# Altium footprint library Inductors.PcbLib: 20 footprints (part 1 of 2)
Each footprint in its own frame and in the unit in brackets; x right, y up, seen from the top. Pads: shape width x height; smd on the part's side, far side on the other; paste and mask are expansions set on the pad; w line width, h text height; cw(c..) or ccw(c..) is an arc to the next point about the centre after c.
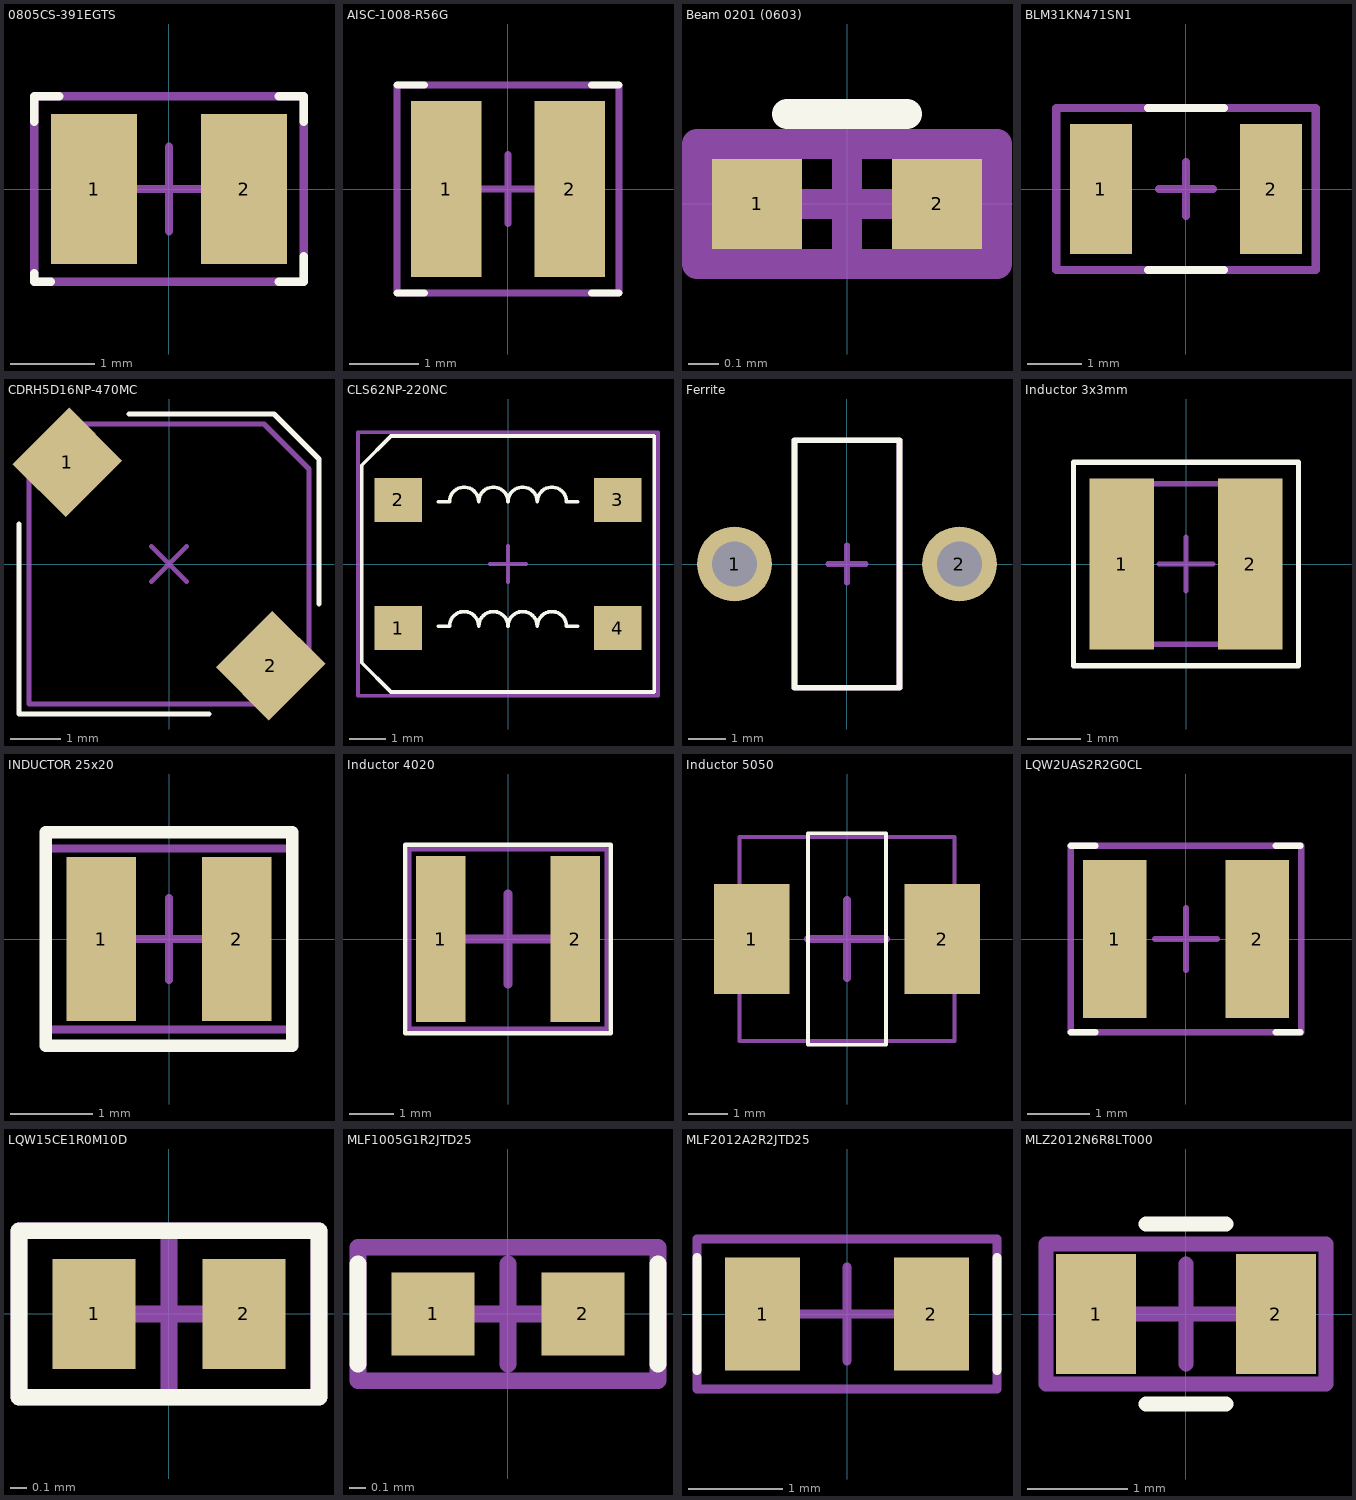
[diagram p0: the footprints below, top view; thin cyan lines are the x and y axes]

## 0805CS-391EGTS [mm]
pads (2):
  rect 1.02x1.78 smd mask+0.05: 1(-0.89,0) 2(0.89,0)
Top Overlay:
  lines w0.1: -1.6,-1 -1.6,-1.1 -1.4,-1.1 ; -1.6,0.8 -1.6,1.1 -1.3,1.1 ; 1.3,-1.1 1.6,-1.1 1.6,-0.8 ; 1.3,1.1 1.6,1.1 1.6,0.8
Mechanical 15:
  lines w0.1: -0.5,0 0.5,0 ; 0,-0.5 0,0.5 ; -1.6,-1.1 1.6,-1.1 1.6,1.1 -1.6,1.1 -1.6,-1.1
3D body "Coilcraft-0805CS.step": height 1.51, standoff -0.01, extent -1.145,-0.863 1.145,0.863

## AISC-1008-R56G [mm]
pads (2):
  rect 1.02x2.54 smd mask+0.05: 1(-0.89,0) 2(0.89,0)
Top Overlay:
  lines w0.1: -1.6,-1.5 -1.2,-1.5 ; -1.6,1.5 -1.2,1.5 ; 1.2,-1.5 1.6,-1.5 ; 1.2,1.5 1.6,1.5
Mechanical 15:
  lines w0.1: -0.5,0 0.5,0 ; 0,-0.5 0,0.5 ; -1.6,-1.5 1.6,-1.5 1.6,1.5 -1.6,1.5 -1.6,-1.5
3D body "inductor_1008as-056j-yy.stp": height 2.02, standoff 0, extent -1.45,-1.4 1.45,1.4

## Beam 0201 (0603) [mm] "Ferrite Beam"
pads (2):
  rect 0.3x0.3 smd: 1(-0.3,0) 2(0.3,0)
Top Overlay:
  lines w0.1: -0.2,0.3 0.2,0.3
Mechanical 15:
  lines w0.1: -0.2,0 0.2,0 ; 0,-0.2 0,0.2 ; 0,0.2 0.5,0.2 0.5,-0.2 -0.5,-0.2 -0.5,0.2 0,0.2
3D body "742692003.stp": height 0.29, standoff -0.01, extent -0.3,-0.15 0.3,0.15

## BLM31KN471SN1 [mm]
pads (2):
  rect 1.15x2.4 smd: 1(-1.575,0) 2(1.575,0)
Top Overlay:
  lines w0.15: -0.7,-1.5 0.7,-1.5 ; -0.7,1.5 0.7,1.5
Mechanical 15:
  lines w0.15: -0.5,0 0.5,0 ; 0,-0.5 0,0.5 ; -2.4,-1.5 2.4,-1.5 2.4,1.5 -2.4,1.5 -2.4,-1.5
3D body "User Library-BLM31PG330SN1.step": height 1.11, standoff -0.01, extent -1.6,-0.81 1.6,0.81

## CDRH5D16NP-470MC [mm]
height 1.8
pads (2):
  rect 1.5x1.6 smd rot 135: 1(-2.033,2.033) 2(2.033,-2.033)
Top Overlay:
  lines w0.1: -3,0.8 -3,-3 0.8,-3 ; -0.8,3 2.1,3 3,2.1 3,-0.8
Mechanical 13:
  lines w0.1: -0.354,-0.354 0.354,0.354 ; -0.354,0.354 0.354,-0.354 ; -2.8,-2.8 -2.8,2 -2,2.8 1.9,2.8 2.8,1.9 2.8,-1.745 1.745,-2.8 -2.8,-2.8
3D body "User Library-CDRH5D18.STEP": height 2, standoff 0, extent -3.005,-3 3,3

## CLS62NP-220NC [mm]
height 2.5
pads (4):
  rect 1.3x1.2 smd: 1(-3,-1.75) 2(-3,1.75) 3(3,1.75) 4(3,-1.75)
Top Overlay:
  lines w0.1: -1.9,-1.7 -1.6,-1.7 cw(c-1.2,-1.7) -0.8,-1.7 cw(c-0.4,-1.7) 0,-1.7 cw(c0.4,-1.7) 0.8,-1.7 cw(c1.2,-1.7) 1.6,-1.7 1.9,-1.7 ; -1.9,1.7 -1.6,1.7 cw(c-1.2,1.7) -0.8,1.7 cw(c-0.4,1.7) 0,1.7 cw(c0.4,1.7) 0.8,1.7 cw(c1.2,1.7) 1.6,1.7 1.9,1.7 ; -4,-2.7 -4,2.7 -3.2,3.5 4,3.5 4,-3.5 -3.2,-3.5 -4,-2.7
Mechanical 13:
  lines w0.1: -0.5,0 0.5,0 ; 0,-0.5 0,0.5 ; -4.1,-3.6 -4.1,3.6 4.1,3.6 4.1,-3.6 -4.1,-3.6
3D body: height 2.5, standoff 0, extent -4,-3.5 4,3.5

## Ferrite [mm]
pads (2):
  round 2 hole 1.2: 1(-3,0) 2(3,0)
Top Overlay:
  lines w0.15: -1.4,-3.3 1.4,-3.3 1.4,3.3 -1.4,3.3 -1.4,-3.3
Mechanical 13:
  lines w0.15: -0.5,0 0.5,0 ; 0,-0.5 0,0.5 ; -1.4,-3.3 -1.4,3.3 1.4,3.3 1.4,-3.3 -1.4,-3.3

## Inductor 3x3mm [mm]
height 1
pads (2):
  rect 1.2x3.2 smd: 1(-1.2,0) 2(1.2,0)
Top Overlay:
  lines w0.1: -2.1,-1.9 2.1,-1.9 2.1,1.9 -2.1,1.9 -2.1,-1.9
Mechanical 13:
  lines w0.1: -0.5,0 0.5,0 ; 0,-0.5 0,0.5 ; -1.5,-1.5 -1.5,1.5 1.5,1.5 1.5,-1.5 -1.5,-1.5
3D body "User Library-Murata_LQH3NP_M0(1212).step": height 1.4, standoff -0.01, extent -1.51,-1.5 1.51,1.5

## INDUCTOR 25x20 [mm]
pads (2):
  rect 0.85x2 smd: 1(-0.825,0) 2(0.825,0)
Top Overlay:
  lines w0.15: -1.5,-1.3 1.5,-1.3 1.5,1.3 -1.5,1.3 -1.5,-1.3
Mechanical 13:
  lines w0.1: -0.5,0 0.5,0 ; 0,-0.5 0,0.5 ; -1.5,-1.1 1.5,-1.1 1.5,1.1 -1.5,1.1 -1.5,-1.1

## Inductor 4020 [mm]
pads (2):
  rect 1.1x3.7 smd: 1(-1.5,0) 2(1.5,0)
Top Overlay:
  lines w0.1: -2.3,-2.1 2.3,-2.1 2.3,2.1 -2.3,2.1 -2.3,-2.1
Mechanical 13:
  lines w0.1: -2.2,-2 2.2,-2 2.2,2 -2.2,2 -2.2,-2
  lines w0.2: -1,0 1,0 ; 0,-1 0,1

## Inductor 5050 [mm]
height 2
pads (2):
  rect 1.92x2.8 smd: 1(-2.43,0) 2(2.43,0)
Top Overlay:
  lines w0.1: -1,-2.7 1,-2.7 1,2.7 -1,2.7 -1,-2.7
Mechanical 13:
  lines w0.1: -2.75,-2.6 -2.75,2.6 2.75,2.6 2.75,-2.6 -2.75,-2.6
  lines w0.2: -1,0 1,0 ; 0,-1 0,1
3D body "ihlp2020bzer6r8m01.stp": height 1.95, standoff 0.03, extent -2.751,-2.573 2.7,2.573

## LQW2UAS2R2G0CL [mm]
pads (2):
  rect 1.02x2.54 smd mask+0.05: 1(-1.145,0) 2(1.145,0)
Top Overlay:
  lines w0.1: -1.855,-1.5 -1.455,-1.5 ; -1.855,1.5 -1.455,1.5 ; 1.445,-1.5 1.845,-1.5 ; 1.445,1.5 1.845,1.5
Mechanical 15:
  lines w0.1: -0.5,0 0.5,0 ; 0,-0.5 0,0.5 ; -1.855,-1.5 1.855,-1.5 1.855,1.5 -1.855,1.5 -1.855,-1.5
3D body "Coilcraft-1008CS.step": height 2.48, standoff -0.01, extent -1.46,-1.395 1.46,1.395

## LQW15CE1R0M10D [mm]
pads (2):
  rect 0.5x0.66 smd mask+0.05: 1(-0.45,0) 2(0.45,0)
Top Overlay:
  lines w0.1: -0.9,-0.5 -0.9,0.5 0.9,0.5 0.9,-0.5 -0.9,-0.5
Mechanical 15:
  lines w0.1: -0.5,0 0.5,0 ; 0,-0.5 0,0.5 ; -0.9,-0.5 0.9,-0.5 0.9,0.5 -0.9,0.5 -0.9,-0.5
3D body "User Library-INDC1005X50-MURATA_LQW15A.step": height 0.51, standoff 0, extent -0.5,-0.3 0.5,0.3

## MLF1005G1R2JTD25 [mm]
pads (2):
  rect 0.5x0.5 smd mask+0.05: 1(-0.45,0) 2(0.45,0)
Top Overlay:
  lines w0.1: -0.9,-0.3 -0.9,0.3 ; 0.9,-0.3 0.9,0.3
Mechanical 15:
  lines w0.1: -0.3,0 0.3,0 ; 0,-0.3 0,0.3 ; -0.9,-0.4 -0.9,0.4 0.9,0.4 0.9,-0.4 -0.9,-0.4
3D body "User Library-d0402h025.step": height 0.25, standoff 0, extent -0.5,-0.25 0.5,0.25

## MLF2012A2R2JTD25 [mm]
pads (2):
  rect 0.8x1.2 smd: 1(-0.9,0) 2(0.9,0)
Top Overlay:
  lines w0.1: -1.6,-0.6 -1.6,0.6 ; 1.6,-0.6 1.6,0.6
Mechanical 15:
  lines w0.1: -0.5,0 0.5,0 ; 0,-0.5 0,0.5 ; -1.6,-0.8 -1.6,0.8 1.6,0.8 1.6,-0.8 -1.6,-0.8
3D body "74479032.stp": height 1.25, standoff 0, extent -1,-0.625 1,0.625

## MLZ2012N6R8LT000 [mm]
pads (2):
  rect 0.8x1.2 smd mask+0.08: 1(-0.9,0) 2(0.9,0)
Top Overlay:
  lines w0.15: -0.4,-0.9 0.4,-0.9 ; -0.4,0.9 0.4,0.9
Mechanical 15:
  lines w0.15: -0.5,0 0.5,0 ; 0,-0.5 0,0.5 ; -1.4,-0.7 -1.4,0.7 1.4,0.7 1.4,-0.7 -1.4,-0.7
3D body "74479032.stp": height 1.25, standoff 0, extent -1,-0.625 1,0.625